# EAGLE library part SDRAM_54TSOP (library microbuilder)
64Mb SDRAM (4Mb x 16) Micron: MT48LC4M16A2P-7E:G TR - 133 MHz, 3V-3.6V, 0-70C - Digikey: 557-1089-1-ND MT48LC4M16A2P-75 IT:G TR - 133 MHz, 3V-3.6V, -40-85C - Digikey: 557-1087-1-ND ISSI (cheaper): IS42S16400F-7TL - 143 MHz, 3V-3.6V, 0-70C - Digikey: 706-1077-ND IS42S16400J-7TLI - 143 MHz, 3V-3.6V, -40-85C - Digikey: 706-1132-ND 256Mb SDRAM (16Mb x 16) MT48LC16M16A2TG-7E IT:D TR - 133MHz, 3V-3.6V, -40-85C - Digikey: 557-1064-1-ND
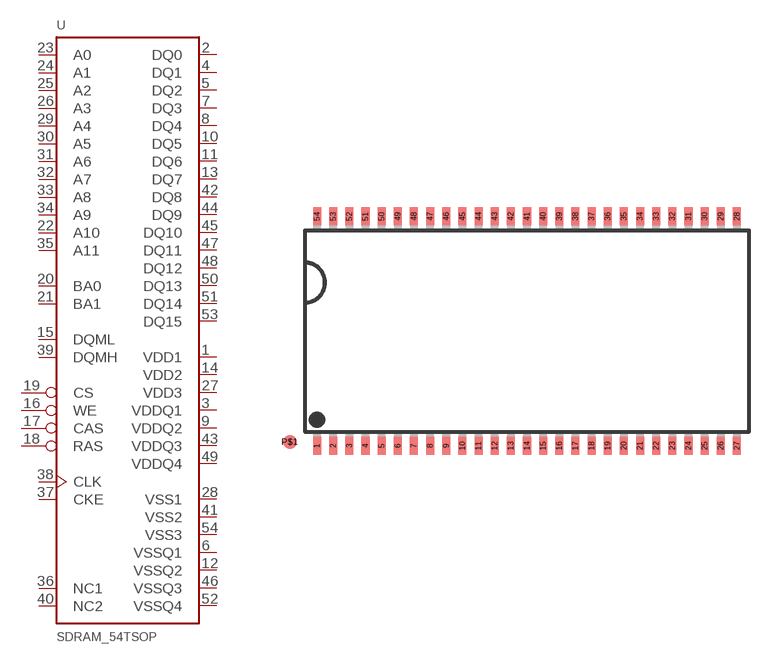
[diagram p39: symbol with the pads of TSOP54-400; footprint TSOP54-400]

Designator prefix U

## SDRAM_54TSOP  [TSOP54-400]
1  VDD1
2  DQ0
3  VDDQ1
4  DQ1
5  DQ2
6  VSSQ1
7  DQ3
8  DQ4
9  VDDQ2
10  DQ5
11  DQ6
12  VSSQ2
13  DQ7
14  VDD2
15  DQML
16  WE
17  CAS
18  RAS
19  CS
20  BA0
21  BA1
22  A10
23  A0
24  A1
25  A2
26  A3
27  VDD3
28  VSS1
29  A4
30  A5
31  A6
32  A7
33  A8
34  A9
35  A11
36  NC1
37  CKE
38  CLK
39  DQMH
40  NC2
41  VSS2
42  DQ8
43  VDDQ3
44  DQ9
45  DQ10
46  VSSQ3
47  DQ11
48  DQ12
49  VDDQ4
50  DQ13
51  DQ14
52  VSSQ4
53  DQ15
54  VSS3

## Footprint TSOP54-400 (pad centres in mm)
54-Pin Plastic TSOP (400 mil) Source: http://download.micron.com/pdf/datasheets/dram/sdram/256MSDRAM.pdf
smd 0.4 x 0.9: 1 -10.4,-5.68; 2 -9.6,-5.68; 3 -8.8,-5.68; 4 -8,-5.68; 5 -7.2,-5.68; 6 -6.4,-5.68; 7 -5.6,-5.68; 8 -4.8,-5.68; 9 -4,-5.68; 10 -3.2,-5.68; 11 -2.4,-5.68; 12 -1.6,-5.68; 13 -0.8,-5.68; 14 0,-5.68; 15 0.8,-5.68; 16 1.6,-5.68; 17 2.4,-5.68; 18 3.2,-5.68; 19 4,-5.68; 20 4.8,-5.68; 21 5.6,-5.68; 22 6.4,-5.68; 23 7.2,-5.68; 24 8,-5.68; 25 8.8,-5.68; 26 9.6,-5.68; 27 10.4,-5.68; 28 10.4,5.68; 29 9.6,5.68; 30 8.8,5.68; 31 8,5.68; 32 7.2,5.68; 33 6.4,5.68; 34 5.6,5.68; 35 4.8,5.68; 36 4,5.68; 37 3.2,5.68; 38 2.4,5.68; 39 1.6,5.68; 40 0.8,5.68; 41 0,5.68; 42 -0.8,5.68; 43 -1.6,5.68; 44 -2.4,5.68; 45 -3.2,5.68; 46 -4,5.68; 47 -4.8,5.68; 48 -5.6,5.68; 49 -6.4,5.68; 50 -7.2,5.68; 51 -8,5.68; 52 -8.8,5.68; 53 -9.6,5.68; 54 -10.4,5.68
smd 0.7 x 0.7: P$1 -11.75,-5.5